# Altium footprint library Molex.PcbLib: 1 footprints
Each footprint in its own frame and in the unit in brackets; x right, y up, seen from the top. Pads: shape width x height; smd on the part's side, far side on the other; paste and mask are expansions set on the pad; w line width, h text height; cw(c..) or ccw(c..) is an arc to the next point about the centre after c.
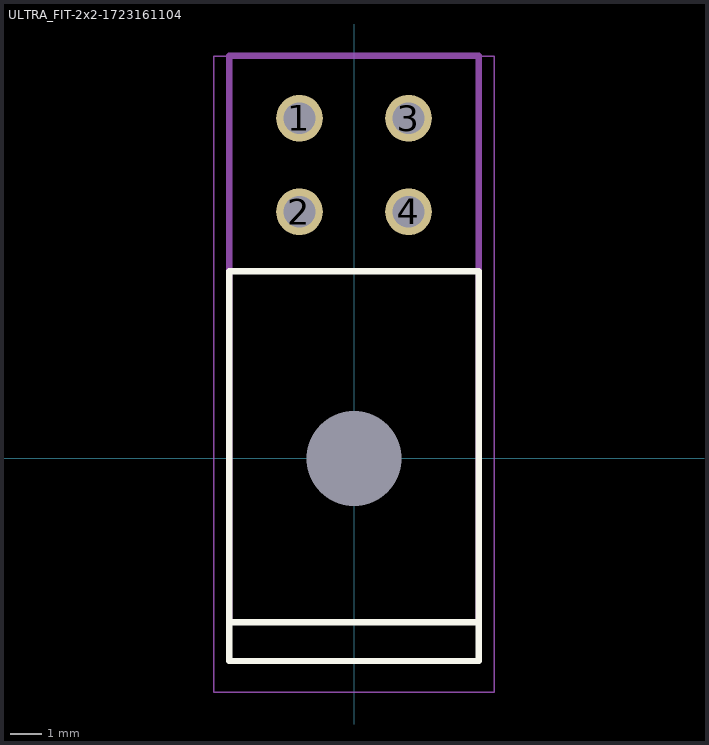
[diagram p0: the footprint, top view; thin cyan lines are the x and y axes]

## ULTRA_FIT-2x2-1723161104 [mm]
pads (5):
  round 1.5 hole 1.02: 1(-1.75,10.91) 2(-1.75,7.91) 3(1.75,10.91) 4(1.75,7.91)
  round 0 hole 3.048: ""(0,0)
Top Overlay:
  lines w0.2: -4,-5.26 -4,-6.5 4,-6.5 4,-5.26 ; -4,-5.26 4,-5.26 ; -4,-5.26 -4,6 4,6 4,-5.26
Mechanical 13:
  lines w0.2: -4,-5.25 -4,12.91 4,12.91 4,-5.25 -4,-5.25
Mechanical 15:
  lines w0.05: -4.5,-7.5 -4.5,12.9 4.5,12.9 4.5,-7.5 -4.5,-7.5
  text ".Designator" at 0.5,-4.2 h2
3D body "1723161104.stp": height 13.56, standoff -3.2, extent -4.5,-7.45 4.5,11.228